# EAGLE library part MCP3421 (library SparkFun-DigitalIC)
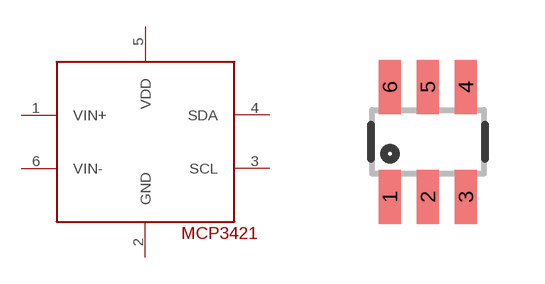
[diagram p107: symbol with the pads of SOT23-6; footprint SOT23-6]

Designator prefix -

## MCP3421  [SOT23-6]
1  VIN+
2  GND
3  SCL
4  SDA
5  VDD
6  VIN-

## Footprint SOT23-6 (pad centres in mm)
smd 0.55 x 1.35: 1 -0.95,-1.375; 2 0,-1.375; 3 0.95,-1.375; 4 0.95,1.375; 5 0,1.375; 6 -0.95,1.375